# Altium footprint library PcbLib1.PcbLib: 7 footprints
Each footprint in its own frame and in the unit in brackets; x right, y up, seen from the top. Pads: shape width x height; smd on the part's side, far side on the other; paste and mask are expansions set on the pad; w line width, h text height; cw(c..) or ccw(c..) is an arc to the next point about the centre after c.
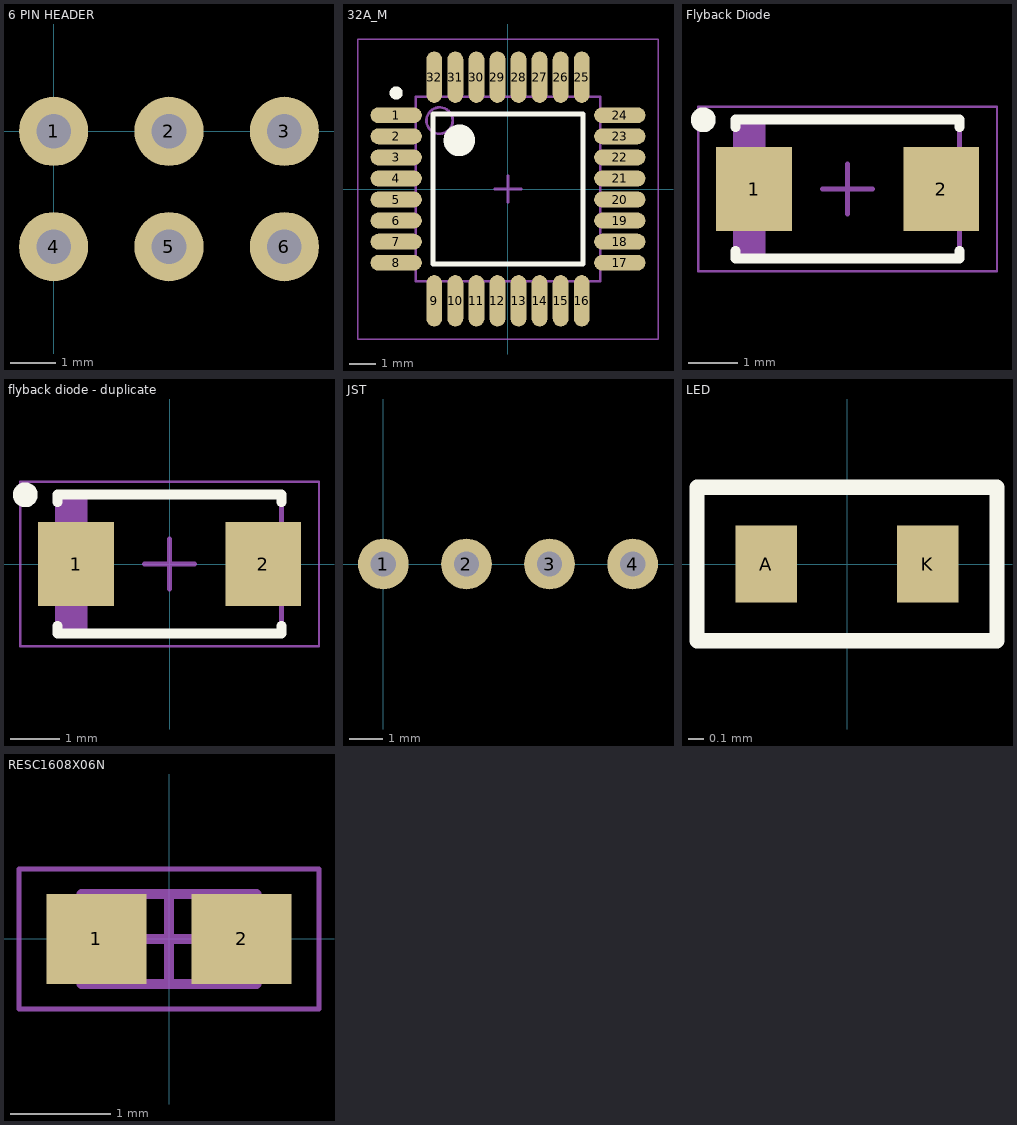
[diagram p0: the footprints below, top view; thin cyan lines are the x and y axes]

## 6 PIN HEADER [mil]
pads (6):
  round 60 hole 30: 1(0,0) 2(100,0) 3(200,0) 4(0,-100) 5(100,-100) 6(200,-100)

## 32A_M [mm] "Thin QFP, 32-Leads, Body 7x7mm, Pitch 0.8mm, IPC Low Density"
height 1.2
pads (32):
  oval 1.95x0.6 smd: 1(-4.25,2.8) 2(-4.25,2) 3(-4.25,1.2) 4(-4.25,0.4) 5(-4.25,-0.4) 6(-4.25,-1.2) 7(-4.25,-2) 8(-4.25,-2.8) 17(4.25,-2.8) 18(4.25,-2) 19(4.25,-1.2) 20(4.25,-0.4) 21(4.25,0.4) 22(4.25,1.2) 23(4.25,2) 24(4.25,2.8)
  oval 0.6x1.95 smd: 9(-2.8,-4.25) 10(-2,-4.25) 11(-1.2,-4.25) 12(-0.4,-4.25) 13(0.4,-4.25) 14(1.2,-4.25) 15(2,-4.25) 16(2.8,-4.25) 25(2.8,4.25) 26(2,4.25) 27(1.2,4.25) 28(0.4,4.25) 29(-0.4,4.25) 30(-1.2,4.25) 31(-2,4.25) 32(-2.8,4.25)
Top Overlay:
  circle w0.25: c-4.25,3.65 r0.125
  circle w0.6: c-1.85,1.85 r0.3
  lines w0.2: -2.85,-2.85 -2.85,2.85 2.85,2.85 2.85,-2.85 -2.85,-2.85
Mechanical 13:
  circle w0.1: c-2.6,2.6 r0.5
  lines w0.1: -3.5,-3.5 -3.5,3.5 3.5,3.5 3.5,-3.5 -3.5,-3.5
Mechanical 15:
  lines w0.05: -5.7,-5.7 -5.7,5.7 5.7,5.7 5.7,-5.7 -5.7,-5.7
  lines w0.1: -0.5,0 0.5,0 ; 0,-0.5 0,0.5
3D body: height 1.2, standoff 0, extent -3.5,-3.5 3.5,3.5

## Flyback Diode [mm]
pads (2):
  rect 1.52x1.68 smd: 1(204.749,67.31) 2(208.509,67.31)
Top Overlay:
  circle w0.25: c203.729,68.7 r0.125
  lines w0.2: 204.379,66.07 204.379,65.91 208.879,65.91 208.879,66.07 ; 204.379,68.55 204.379,68.71 208.879,68.71 208.879,68.55
Mechanical 13:
  rectangle: 204.379,65.915 204.984,68.705
  lines w0.1: 204.379,65.915 204.379,68.705 208.879,68.705 208.879,65.915 204.379,65.915
Mechanical 15:
  lines w0.05: 203.629,65.66 203.629,68.96 209.629,68.96 209.629,65.66 203.629,65.66
  lines w0.1: 206.129,67.31 207.129,67.31 ; 206.629,66.81 206.629,67.81
3D body "DIOM4227X23N.step": height 2.29, standoff 0, extent 204.159,65.915 209.099,68.705

## flyback diode - duplicate [mm] "Molded Diode, 2-Leads, Body 4.25x2.67mm, IPC Medium Density"
height 2.29
pads (2):
  rect 1.52x1.68 smd: 1(-1.88,0) 2(1.88,0)
Top Overlay:
  circle w0.25: c-2.9,1.39 r0.125
  lines w0.2: -2.25,-1.24 -2.25,-1.4 2.25,-1.4 2.25,-1.24 ; -2.25,1.24 -2.25,1.4 2.25,1.4 2.25,1.24
Mechanical 13:
  rectangle: -2.25,-1.395 -1.645,1.395
  lines w0.1: -2.25,-1.395 -2.25,1.395 2.25,1.395 2.25,-1.395 -2.25,-1.395
Mechanical 15:
  lines w0.05: -3,-1.65 -3,1.65 3,1.65 3,-1.65 -3,-1.65
  lines w0.1: -0.5,0 0.5,0 ; 0,-0.5 0,0.5
3D body "DIOM4227X23N.step": height 2.29, standoff 0, extent -2.47,-1.395 2.47,1.395

## JST [mil]
pads (4):
  round 60 hole 30: 1(0,0) 2(98.43,0) 3(196.85,0) 4(295.28,0)

## LED [mm]
pads (2):
  rect 0.4x0.5 smd: A(-0.525,0) K(0.525,0)
Top Overlay:
  lines w0.1: -0.975,-0.5 -0.975,0 -0.975,0.5 0.975,0.5 0.975,-0.5 -0.975,-0.5

## RESC1608X06N [mm] "Chip Resistor, 2-Leads, Body 1.60x0.80mm, IPC Medium Density"
height 0.55
pads (2):
  rect 1x0.9 smd: 1(-0.725,0) 2(0.725,0)
Mechanical 13:
  lines w0.1: -0.875,-0.45 -0.875,0.45 0.875,0.45 0.875,-0.45 -0.875,-0.45
Mechanical 15:
  lines w0.05: -1.5,-0.7 -1.5,0.7 1.5,0.7 1.5,-0.7 -1.5,-0.7
  lines w0.1: -0.45,0 0.45,0 ; 0,-0.45 0,0.45
3D body "RESC1608X06N.step": height 0.55, standoff 0, extent -0.875,-0.45 0.875,0.45